# Altium footprint library lib.PcbLib: 36 footprints (part 1 of 3)
Each footprint in its own frame and in the unit in brackets; x right, y up, seen from the top. Pads: shape width x height; smd on the part's side, far side on the other; paste and mask are expansions set on the pad; w line width, h text height; cw(c..) or ccw(c..) is an arc to the next point about the centre after c.
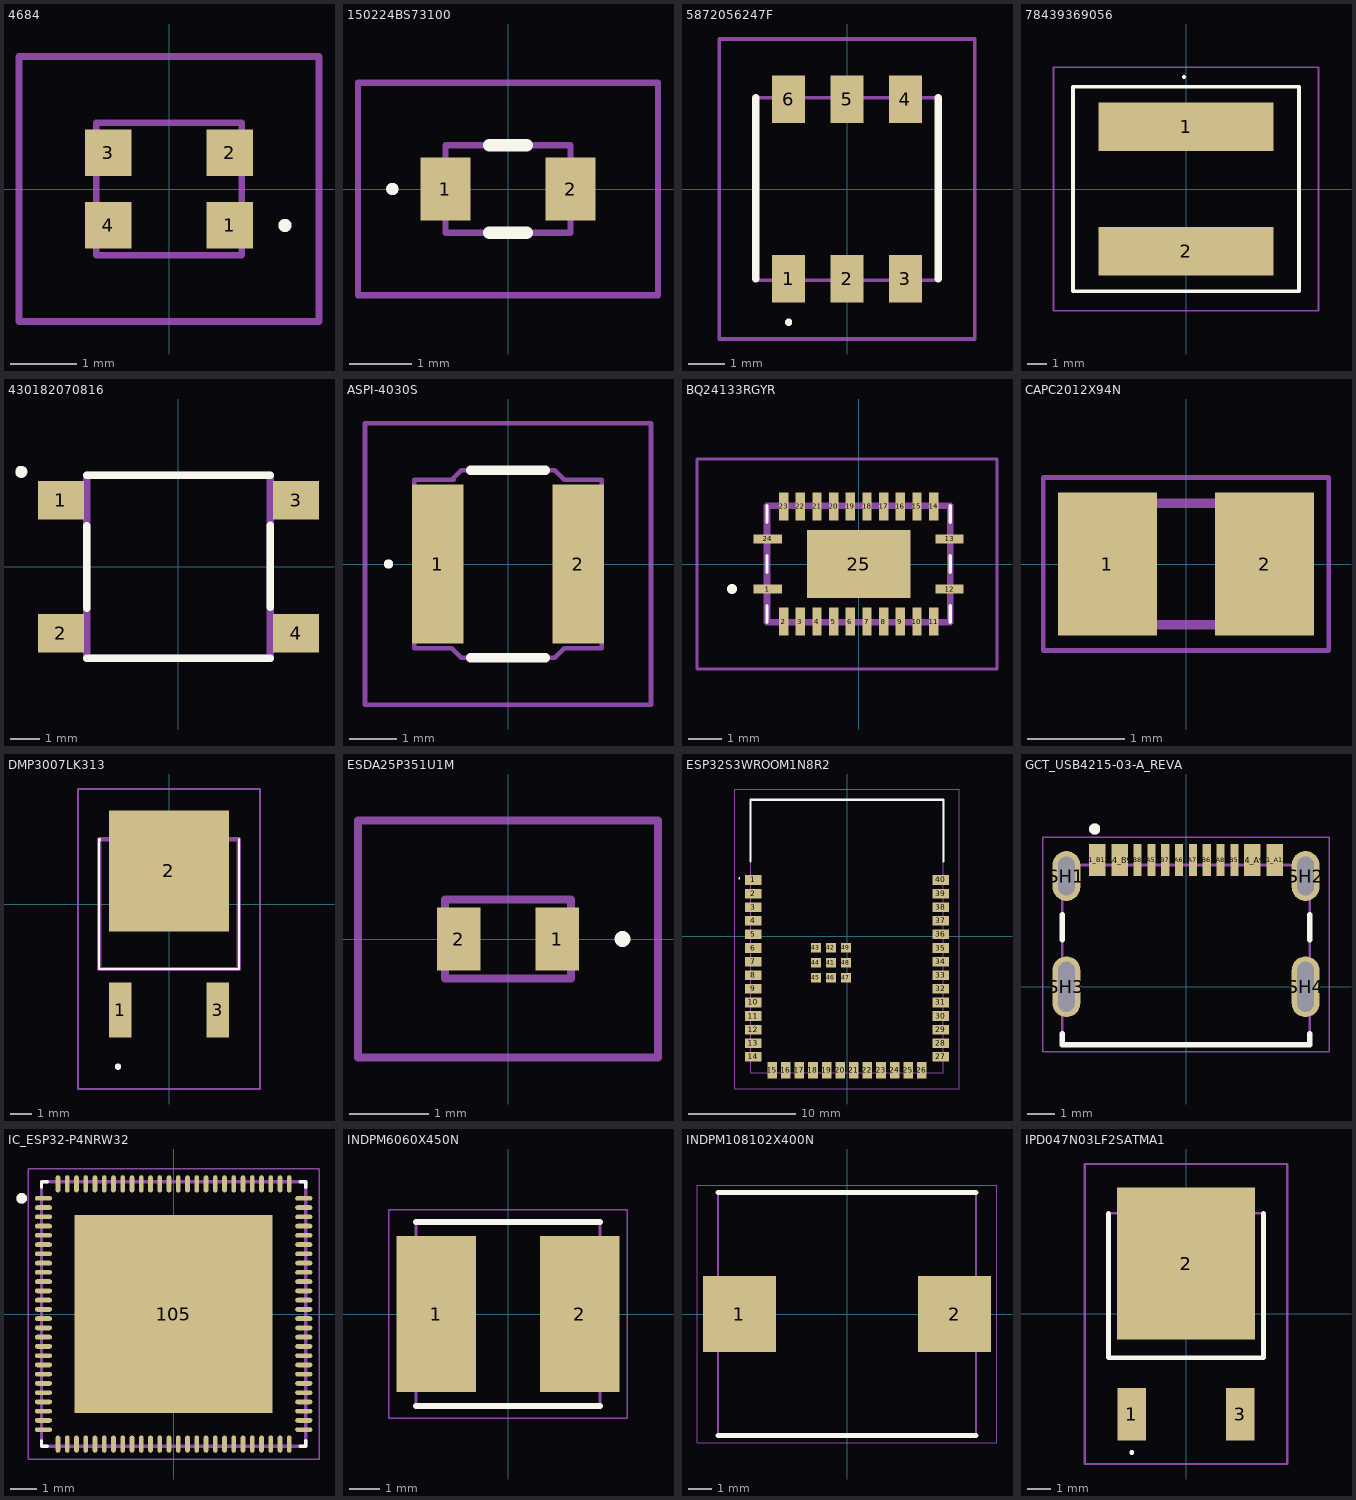
[diagram p0: the footprints below, top view; thin cyan lines are the x and y axes]

## 4684 [mm]
pads (4):
  rect 0.7x0.7 smd: 1(0.915,-0.55) 2(0.915,0.55) 3(-0.915,0.55) 4(-0.915,-0.55)
Top Overlay:
  lines w0.1: 1.7,-0.55 ccw(c1.75,-0.55) 1.8,-0.55 ccw(c1.75,-0.55) 1.7,-0.55
Mechanical 13:
  lines w0.1: -1.1,-1 -1.1,1 1.1,1 1.1,-1 -1.1,-1
Mechanical 15:
  lines w0.1: -2.265,-2 -2.265,2 2.265,2 2.265,-2 -2.265,-2
3D body "4684.stp": height 0.84, standoff 0, extent -1.1,-1 1.1,1

## 150224BS73100 [mm]
pads (2):
  rect 0.8x1 smd: 1(-1,0) 2(1,0)
Top Overlay:
  lines w0.1: -1.9,0 cw(c-1.85,0) -1.8,0 cw(c-1.85,0) -1.9,0
  lines w0.2: -0.3,-0.7 0.3,-0.7 ; -0.3,0.7 0.3,0.7
Mechanical 13:
  lines w0.1: -1,-0.7 1,-0.7 1,0.7 -1,0.7 -1,-0.7
Mechanical 15:
  lines w0.1: -2.4,-1.7 2.4,-1.7 2.4,1.7 -2.4,1.7 -2.4,-1.7
3D body "150224BS73100.stp": height 1.31, standoff 0, extent -1.15,-0.7 1.15,0.7

## 5872056247F [mm]
pads (6):
  rect 0.9x1.3 smd: 1(-1.6,-2.46) 2(0,-2.46) 3(1.6,-2.46) 4(1.6,2.46) 5(0,2.46) 6(-1.6,2.46)
Top Overlay:
  lines w0.1: -1.6,-3.7 ccw(c-1.6,-3.65) -1.6,-3.6 ccw(c-1.6,-3.65) -1.6,-3.7
  lines w0.2: -2.5,-2.46 -2.5,2.5 ; 2.5,-2.46 2.5,2.5
Mechanical 13:
  lines w0.1: -2.5,-2.5 2.5,-2.5 2.5,2.5 -2.5,2.5 -2.5,-2.5
Mechanical 15:
  lines w0.1: -3.5,-4.11 3.5,-4.11 3.5,4.11 -3.5,4.11 -3.5,-4.11
3D body "587-2056-247F.stp": height 1.58, standoff 0, extent -2.5,-2.68 2.5,2.681

## 78439369056 [mm]
pads (2):
  rect 9x2.5 smd: 1(0,3.2) 2(0,-3.2)
Top Overlay:
  lines w0.1: -0.1,5.7 ccw(c-0.1,5.75) -0.1,5.8 ccw(c-0.1,5.75) -0.1,5.7
  lines w0.2: -5.8,-5.25 5.8,-5.25 5.8,5.25 -5.8,5.25 -5.8,-5.25
Mechanical 13:
  lines w0.1: -5.8,-5.25 5.8,-5.25 5.8,5.25 -5.8,5.25 -5.8,-5.25
Mechanical 15:
  lines w0.1: -6.8,-6.25 6.8,-6.25 6.8,6.25 -6.8,6.25 -6.8,-6.25
3D body "78439369056.stp": height 9.2, standoff 0, extent -5.8,-5.25 5.8,5.25

## 430182070816 [mm]
pads (4):
  rect 1.55x1.3 smd: 1(-3.975,2.25) 2(-3.975,-2.25) 3(3.975,2.25) 4(3.975,-2.25)
Top Overlay:
  circle w0.254: c-5.315,3.209 r0.076
  lines w0.254: -3.1,-3.1 3.1,-3.1 ; -3.1,-1.407 -3.1,1.383 ; -3.1,3.1 3.1,3.1 ; 3.1,-1.364 3.1,1.397
Mechanical 13:
  lines w0.254: -3.1,-3.1 3.1,-3.1 3.1,3.1 -3.1,3.1 -3.1,-3.1
3D body "430182050816.stp": height 5, standoff 0, extent -4.5,-3.1 4.5,3.1

## ASPI-4030S [mm]
pads (2):
  rect 1.1x3.4 smd: 1(-1.5,0) 2(1.5,0)
Top Overlay:
  lines w0.1: -2.6,0 ccw(c-2.55,0) -2.5,0 ccw(c-2.55,0) -2.6,0
  lines w0.2: -0.8,-2 0.8,-2 ; -0.8,2 0.8,2
Mechanical 13:
  lines w0.1: -1.2,1.8 -1,2 1,2 1.2,1.8 2,1.8 2,-1.8 1.2,-1.8 1,-2 -1,-2 -1.2,-1.8 -2,-1.8 -2,1.8 -1.16,1.8
Mechanical 15:
  lines w0.1: -3.05,-3 3.05,-3 3.05,3 -3.05,3 -3.05,-3
3D body "ASPI-4030S-5R6M-T.stp": height 3, standoff 0, extent -2,-2 2,2

## BQ24133RGYR [mm]
pads (25):
  rect 0.85x0.28 smd: 1(-2.725,-0.75) 12(2.725,-0.75) 13(2.725,0.75) 24(-2.725,0.75)
  rect 0.28x0.85 smd: 2(-2.25,-1.725) 3(-1.75,-1.725) 4(-1.25,-1.725) 5(-0.75,-1.725) 6(-0.25,-1.725) 7(0.25,-1.725) 8(0.75,-1.725) 9(1.25,-1.725) 10(1.75,-1.725) 11(2.25,-1.725) 14(2.25,1.725) 15(1.75,1.725) 16(1.25,1.725) 17(0.75,1.725) 18(0.25,1.725) 19(-0.25,1.725) 20(-0.75,1.725) 21(-1.25,1.725) 22(-1.75,1.725) 23(-2.25,1.725)
  rect 3.1x2.05 smd: 25(0,0)
Top Overlay:
  lines w0.1: -2.75,-1.75 -2.75,-1.25 -2.75,-1.75 ; -2.75,-0.25 -2.75,0.25 -2.75,-0.25 ; -2.75,1.25 -2.75,1.75 -2.75,1.25 ; 2.75,-1.75 2.75,-1.25 2.75,-1.75 ; 2.75,-0.25 2.75,0.25 2.75,-0.25 ; 2.75,1.25 2.75,1.75 2.75,1.25
  lines w0.2: -3.8,-0.8 cw(c-3.8,-0.75) -3.8,-0.7 ; -3.8,-0.8 ccw(c-3.8,-0.75) -3.8,-0.7 ; -3.8,-0.8 cw(c-3.8,-0.75) -3.8,-0.7
Mechanical 13:
  lines w0.2: -2.75,-1.75 2.75,-1.75 2.75,1.75 -2.75,1.75 -2.75,-1.75
Mechanical 15:
  lines w0.1: -4.85,-3.15 4.15,-3.15 4.15,3.15 -4.85,3.15 -4.85,-3.15
3D body "BQ24133RGYR.stp": height 1.1, standoff 0, extent -2.75,-1.75 2.75,1.75

## CAPC2012X94N [mm]
pads (2):
  rect 1.02x1.47 smd: 1(-0.81,0) 2(0.81,0)
Mechanical 13:
  lines w0.1: -1.005,-0.625 -1.005,0.625 1.005,0.625 1.005,-0.625 -1.005,-0.625
Mechanical 15:
  lines w0.05: -1.47,-0.89 -1.47,0.89 1.47,0.89 1.47,-0.89 -1.47,-0.89
3D body "08055A150JAT2A.stp": height 0.94, standoff 0, extent -1.005,-0.625 1.005,0.625

## DMP3007LK313 [mm]
pads (3):
  rect 1.06x2.6 smd: 1(-2.286,-4.985) 3(2.286,-4.985)
  rect 5.632x5.7 smd: 2(-0.001,1.565)
Top Overlay:
  lines w0.1: -3.288,3 -3.25,3 -3.25,3.05 -3.288,3.05 -3.288,3 ; -3.288,3 -3.288,-3.05 -3.288,3 ; -3.25,-3.05 3.25,-3.05 -3.25,-3.05 ; 3.287,-3.05 3.287,3.05 3.287,-3.05
  lines w0.2: -2.4,-7.7 ccw(c-2.4,-7.65) -2.4,-7.6 ; -2.4,-7.7 cw(c-2.4,-7.65) -2.4,-7.6 ; -2.4,-7.7 ccw(c-2.4,-7.65) -2.4,-7.6
Mechanical 13:
  lines w0.2: -3.288,-3.05 -3.288,3.05 3.287,3.05 3.287,-3.05 -3.288,-3.05
Mechanical 15:
  lines w0.1: -4.288,-8.7 -4.288,5.415 4.287,5.415 4.287,-8.7 -4.288,-8.7
3D body "IPD047N03LF2SATMA1.stp": height 2.58, standoff 0, extent -3.298,-5.939 3.302,4.161

## ESDA25P351U1M [mm]
pads (2):
  rect 0.55x0.8 smd: 1(0.625,0) 2(-0.625,0)
Top Overlay:
  lines w0.1: 1.4,0 ccw(c1.45,0) 1.5,0 ccw(c1.45,0) 1.4,0
Mechanical 13:
  lines w0.1: -0.8,-0.5 -0.8,0.5 0.8,0.5 0.8,-0.5 -0.8,-0.5
Mechanical 15:
  lines w0.1: -1.9,-1.5 1.9,-1.5 1.9,1.5 -1.9,1.5 -1.9,-1.5
3D body "ESDA25P35-1U1M.stp": height 0.57, standoff 0, extent -0.8,-0.5 0.8,0.5

## ESP32S3WROOM1N8R2 [mm]
pads (49):
  rect 1.5x0.9 smd: 1(-8.75,5.26) 2(-8.75,3.99) 3(-8.75,2.72) 4(-8.75,1.45) 5(-8.75,0.18) 6(-8.75,-1.09) 7(-8.75,-2.36) 8(-8.75,-3.63) 9(-8.75,-4.9) 10(-8.75,-6.17) 11(-8.75,-7.44) 12(-8.75,-8.71) 13(-8.75,-9.98) 14(-8.75,-11.25) 27(8.75,-11.25) 28(8.75,-9.98) 29(8.75,-8.71) 30(8.75,-7.44) 31(8.75,-6.17) 32(8.75,-4.9) 33(8.75,-3.63) 34(8.75,-2.36) 35(8.75,-1.09) 36(8.75,0.18) 37(8.75,1.45) 38(8.75,2.72) 39(8.75,3.99) 40(8.75,5.26)
  rect 0.9x1.5 smd: 15(-6.985,-12.5) 16(-5.715,-12.5) 17(-4.445,-12.5) 18(-3.175,-12.5) 19(-1.905,-12.5) 20(-0.635,-12.5) 21(0.635,-12.5) 22(1.905,-12.5) 23(3.175,-12.5) 24(4.445,-12.5) 25(5.715,-12.5) 26(6.985,-12.5)
  rect 0.9x0.9 smd: 41(-1.5,-2.46) 42(-1.5,-1.06) 43(-2.9,-1.06) 44(-2.9,-2.46) 45(-2.9,-3.86) 46(-1.5,-3.86) 47(-0.1,-3.86) 48(-0.1,-2.46) 49(-0.1,-1.06)
Top Overlay:
  lines w0.1: -10.1,5.4 cw(c-10.05,5.4) -10,5.4 cw(c-10.05,5.4) -10.1,5.4
  lines w0.2: -9,7 -9,12.75 9,12.75 9,7
Mechanical 13:
  lines w0.1: -9,-12.75 9,-12.75 9,12.75 -9,12.75 -9,-12.75
Mechanical 15:
  lines w0.1: -10.5,-14.25 10.5,-14.25 10.5,13.75 -10.5,13.75 -10.5,-14.25
3D body "ESP32-S3-WROOM-1-N8.stp": height 2.7, standoff -0.4, extent -9,-12.75 9,12.75

## GCT_USB4215-03-A_REVA [mm]
height 3.16
pads (16):
  rect 0.6x1.15 smd: A1_B12(-3.2,4.575) A4_B9(-2.4,4.575) B1_A12(3.2,4.575) B4_A9(2.4,4.575)
  rect 0.3x1.15 smd: A5(-1.25,4.575) A6(-0.25,4.575) A7(0.25,4.575) A8(1.25,4.575) B5(1.75,4.575) B6(0.75,4.575) B7(-0.75,4.575) B8(-1.75,4.575)
  oval 1x1.8 hole 0.6 slot 1.4 at 90 deg: SH1(-4.32,4) SH2(4.32,4)
  oval 1x2.2 hole 0.6 slot 1.8 at 90 deg: SH3(-4.32,0) SH4(4.32,0)
Top Overlay:
  circle w0.2: c-3.3,5.7 r0.1
  lines w0.2: -4.47,-1.7 -4.47,-2.1 4.47,-2.1 4.47,-1.7 ; -4.47,1.7 -4.47,2.6 ; 4.47,1.7 4.47,2.6
Mechanical 13:
  circle w0.2: c-3.3,5.7 r0.1
  lines w0.1: -4.47,-2.1 -4.47,4.4 4.47,4.4 4.47,-2.1 -4.47,-2.1
Mechanical 15:
  lines w0.05: -5.17,-2.35 -5.17,5.4 5.17,5.4 5.17,-2.35 -5.17,-2.35
3D body "usb4215-03-a.stp": height 3.28, standoff -0.78, extent -4.44,-2 4.5,4.749

## IC_ESP32-P4NRW32 [mm]
pads (105):
  oval 0.65x0.18 smd mask+0: 1(-4.925,4.375) 2(-4.925,4.025) 3(-4.925,3.675) 4(-4.925,3.325) 5(-4.925,2.975) 6(-4.925,2.625) 7(-4.925,2.275) 8(-4.925,1.925) 9(-4.925,1.575) 10(-4.925,1.225) 11(-4.925,0.875) 12(-4.925,0.525) 13(-4.925,0.175) 14(-4.925,-0.175) 15(-4.925,-0.525) 16(-4.925,-0.875) 17(-4.925,-1.225) 18(-4.925,-1.575) 19(-4.925,-1.925) 20(-4.925,-2.275) 21(-4.925,-2.625) 22(-4.925,-2.975) 23(-4.925,-3.325) 24(-4.925,-3.675) 25(-4.925,-4.025) 26(-4.925,-4.375) 53(4.925,-4.375) 54(4.925,-4.025) 55(4.925,-3.675) 56(4.925,-3.325) 57(4.925,-2.975) 58(4.925,-2.625) 59(4.925,-2.275) 60(4.925,-1.925) 61(4.925,-1.575) 62(4.925,-1.225) 63(4.925,-0.875) 64(4.925,-0.525) 65(4.925,-0.175) 66(4.925,0.175) 67(4.925,0.525) 68(4.925,0.875) 69(4.925,1.225) 70(4.925,1.575) 71(4.925,1.925) 72(4.925,2.275) 73(4.925,2.625) 74(4.925,2.975) 75(4.925,3.325) 76(4.925,3.675) 77(4.925,4.025) 78(4.925,4.375)
  oval 0.18x0.65 smd mask+0: 27(-4.375,-4.925) 28(-4.025,-4.925) 29(-3.675,-4.925) 30(-3.325,-4.925) 31(-2.975,-4.925) 32(-2.625,-4.925) 33(-2.275,-4.925) 34(-1.925,-4.925) 35(-1.575,-4.925) 36(-1.225,-4.925) 37(-0.875,-4.925) 38(-0.525,-4.925) 39(-0.175,-4.925) 40(0.175,-4.925) 41(0.525,-4.925) 42(0.875,-4.925) 43(1.225,-4.925) 44(1.575,-4.925) 45(1.925,-4.925) 46(2.275,-4.925) 47(2.625,-4.925) 48(2.975,-4.925) 49(3.325,-4.925) 50(3.675,-4.925) 51(4.025,-4.925) 52(4.375,-4.925) 79(4.375,4.925) 80(4.025,4.925) 81(3.675,4.925) 82(3.325,4.925) 83(2.975,4.925) 84(2.625,4.925) 85(2.275,4.925) 86(1.925,4.925) 87(1.575,4.925) 88(1.225,4.925) 89(0.875,4.925) 90(0.525,4.925) 91(0.175,4.925) 92(-0.175,4.925) 93(-0.525,4.925) 94(-0.875,4.925) 95(-1.225,4.925) 96(-1.575,4.925) 97(-1.925,4.925) 98(-2.275,4.925) 99(-2.625,4.925) 100(-2.975,4.925) 101(-3.325,4.925) 102(-3.675,4.925) 103(-4.025,4.925) 104(-4.375,4.925)
  rect 7.5x7.5 smd paste-2.96: 105(0,0)
Top Overlay:
  circle w0.2: c-5.75,4.375 r0.1
  lines w0.127: -5,-4.785 -5,-5 -4.785,-5 ; -5,4.785 -5,5 -4.785,5 ; 4.785,-5 5,-5 5,-4.785 ; 4.785,5 5,5 5,4.785
Top Paste:
  region: -1.71,-3.29 -3.29,-3.29 -3.29,-1.71 -1.71,-1.71
  region: 3.29,-3.29 1.71,-3.29 1.71,-1.71 3.29,-1.71
  region: 0.79,-3.29 -0.79,-3.29 -0.79,-1.71 0.79,-1.71
  region: -1.71,1.71 -3.29,1.71 -3.29,3.29 -1.71,3.29
  region: 3.29,1.71 1.71,1.71 1.71,3.29 3.29,3.29
  region: 0.79,1.75 -0.79,1.75 -0.79,3.33 0.79,3.33
  region: -1.71,-0.79 -3.29,-0.79 -3.29,0.79 -1.71,0.79
  region: 3.29,-0.79 1.71,-0.79 1.71,0.79 3.29,0.79
Top Solder:
  drawing of 104 lines, arcs and shapes, not listed
Mechanical 13:
  circle w0.2: c-5.75,4.375 r0.1
  lines w0.127: -5,-5 5,-5 5,5 -5,5 -5,-5
Mechanical 15:
  lines w0.05: -5.5,-5.5 5.5,-5.5 5.5,5.5 -5.5,5.5 -5.5,-5.5

## INDPM6060X450N [mm]
pads (2):
  rect 2.6x5.1 smd: 1(-2.35,0) 2(2.35,0)
Top Overlay:
  lines w0.2: -3,-3 3,-3 ; -3,3 3,3
Mechanical 13:
  lines w0.1: -3,-3 -3,3 3,3 3,-3 -3,-3
Mechanical 15:
  lines w0.05: -3.9,-3.4 -3.9,3.4 3.9,3.4 3.9,-3.4 -3.9,-3.4
3D body "74404064068.stp": height 4.5, standoff 0, extent -3,-3 3,3

## INDPM108102X400N [mm]
pads (2):
  rect 3.05x3.2 smd: 1(-4.5,0) 2(4.5,0)
Top Overlay:
  lines w0.2: -5.398,-5.08 5.398,-5.08 ; -5.398,5.08 5.398,5.08
Mechanical 13:
  lines w0.1: -5.398,-5.08 -5.398,5.08 5.398,5.08 5.398,-5.08 -5.398,-5.08
Mechanical 15:
  lines w0.05: -6.275,-5.394 -6.275,5.394 6.275,5.394 6.275,-5.394 -6.275,-5.394
3D body "IHLP4040DZER5R6MA1.stp": height 3.88, standoff 0, extent -5.312,-5.111 5.31,5.105

## IPD047N03LF2SATMA1 [mm]
pads (3):
  rect 1.2x2.2 smd: 1(-2.29,-4.235) 3(2.29,-4.235)
  rect 5.8x6.4 smd: 2(0,2.115)
Top Overlay:
  lines w0.1: -2.29,-5.9 ccw(c-2.29,-5.85) -2.29,-5.8 ccw(c-2.29,-5.85) -2.29,-5.9
  lines w0.2: -3.27,4.235 -3.27,-1.86 3.27,-1.86 3.27,4.235
Mechanical 13:
  lines w0.1: -3.27,-1.86 -3.27,4.235 3.27,4.235 3.27,-1.86 -3.27,-1.86
Mechanical 15:
  lines w0.1: -4.27,-6.335 -4.27,6.315 4.27,6.315 4.27,-6.335 -4.27,-6.335
3D body "IPD047N03LF2SATMA1.stp": height 2.58, standoff 0, extent -3.3,-5.05 3.3,5.05